# Altium schematic symbol library XXX485.SchLib: 1 symbol
Pins are listed as number, name and electrical type; pins without a type are passive.

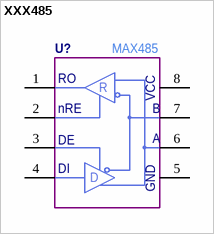
[diagram p0: symbol XXX485]

## XXX485
designator U?  Manufacturer Part Number: MAX485  (hidden comment: *)
pins: 1 RO, 2 ~{RE}, 3 DE, 4 DI, 5 GND, 6 A, 7 B, 8 VCC
text: R; nRE; D